# Altium schematic symbol library ECAP.SchLib: 1 symbol
Pins are listed as number, name and electrical type; pins without a type are passive.

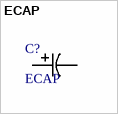
[diagram p0: symbol ECAP]

## ECAP
designator C?
No Description Available; Manufacturer_Part_Number: ECA-2CHG010; Vendor: Panasonic; Built_By: EMA_UL_Team; SourceLibrary: Panasonic_2014-06-20; Type: DEV; Copyright: Copyright (C) 2018 Accelerated Designs. All rights reserved; RefDes: RefDes
footprint PCAP_63x112_PAN
pins: 1, 2